# Altium footprint library Led.PcbLib: 80 footprints (part 2 of 5)
Each footprint in its own frame and in the unit in brackets; x right, y up, seen from the top. Pads: shape width x height; smd on the part's side, far side on the other; paste and mask are expansions set on the pad; w line width, h text height; cw(c..) or ccw(c..) is an arc to the next point about the centre after c.
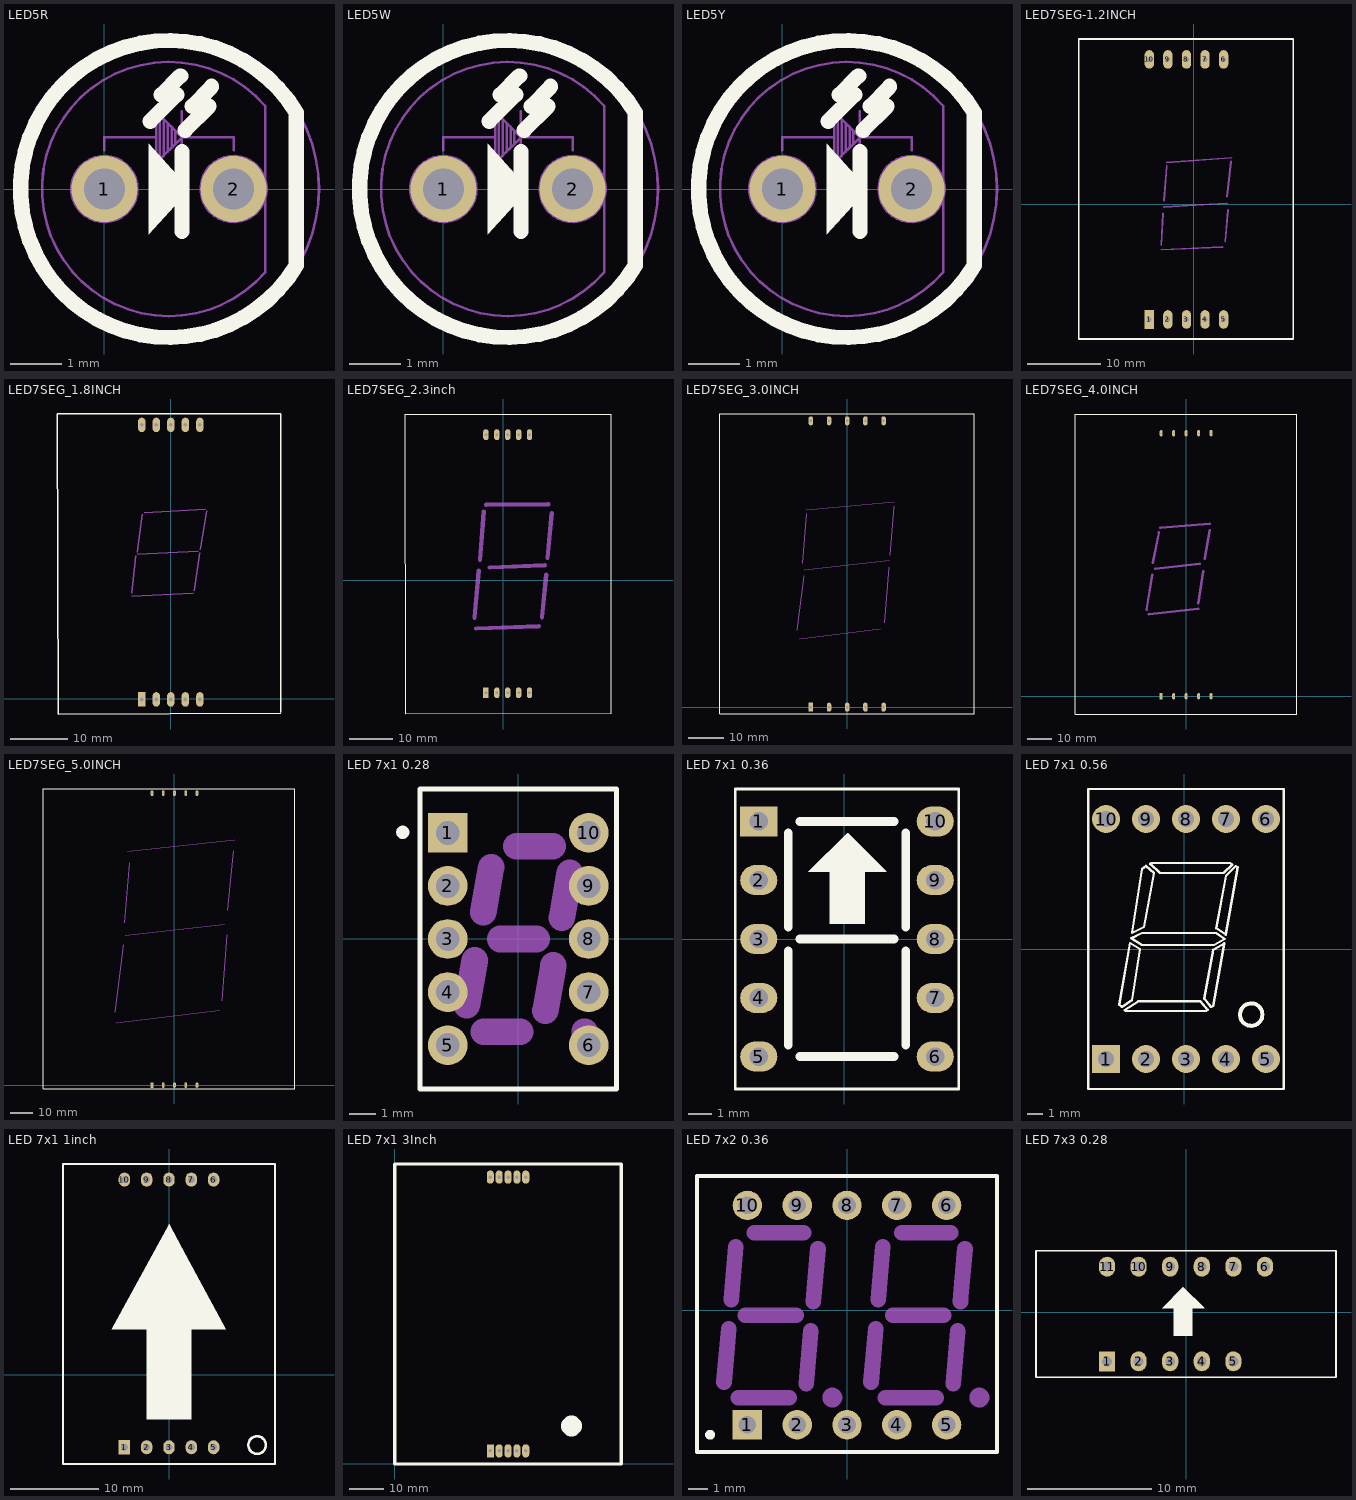
[diagram p1: the footprints below, top view; thin cyan lines are the x and y axes]

## LED5R [mm] "LED, RED, 2 LEAD, 5mm"
height 8.6
pads (2):
  round 1.3 hole 0.8: 1(0,0) 2(2.54,0)
Top Overlay:
  region: 1.676,0 0.876,0.889 0.876,-0.889
  lines w0.3: 0.902,1.333 1.422,1.854 1.118,1.854 1.486,2.222 1.499,2.222 ; 1.524,-0.838 1.524,0.737 ; 1.587,1.156 2.057,1.626 1.727,1.626 2.108,2.007 2.108,2.019 ; 3.775,-1.503 cw(c1.27,0) 3.775,1.503 3.775,-1.503
Mechanical 1:
  circle w0.05: c1.27,0 r2.95
  circle w0.05: c0,0 r0.65
  circle w0.05: c2.54,0 r0.65
  lines w0.05: 0,0.762 0,1.016 1.016,1.016 ; 1.092,1.448 1.092,0.584 ; 1.168,1.372 1.168,0.66 1.092,0.584 ; 1.245,1.295 1.245,0.737 1.321,0.813 ; 1.321,1.219 1.321,0.813 ; 1.397,1.143 1.397,0.889 1.321,0.813 ; 1.524,0.508 1.524,1.524 ; 2.54,0.762 2.54,1.016 2.286,1.016 1.524,1.016 ; 3.159,1.637 ccw(c1.27,0) 3.167,-1.629 ; 3.162,-1.629 3.162,1.637 ; 1.016,0.508 1.092,0.584 ; 1.016,0.508 1.524,1.016 ; 1.016,0.508 1.016,1.524 1.524,1.016
3D body "SW3dPS-LEDd5R.STEP": height 12.31, standoff -2.49, extent -1.71,-3.01 3.71,3.01

## LED5W [mm] "LED, WHITE, 2 LEAD, 5mm"
height 8.6
pads (2):
  round 1.3 hole 0.8: 1(0,0) 2(2.54,0)
Top Overlay:
  region: 1.676,0 0.876,0.889 0.876,-0.889
  lines w0.3: 0.902,1.333 1.422,1.854 1.118,1.854 1.486,2.222 1.499,2.222 ; 1.524,-0.838 1.524,0.737 ; 1.587,1.156 2.057,1.626 1.727,1.626 2.108,2.007 2.108,2.019 ; 3.775,-1.503 cw(c1.27,0) 3.775,1.503 3.775,-1.503
Mechanical 1:
  circle w0.05: c1.27,0 r2.95
  circle w0.05: c0,0 r0.65
  circle w0.05: c2.54,0 r0.65
  lines w0.05: 0,0.762 0,1.016 1.016,1.016 ; 1.092,1.448 1.092,0.584 ; 1.168,1.372 1.168,0.66 1.092,0.584 ; 1.245,1.295 1.245,0.737 1.321,0.813 ; 1.321,1.219 1.321,0.813 ; 1.397,1.143 1.397,0.889 1.321,0.813 ; 1.524,0.508 1.524,1.524 ; 2.54,0.762 2.54,1.016 2.286,1.016 1.524,1.016 ; 3.159,1.637 ccw(c1.27,0) 3.167,-1.629 ; 3.162,-1.629 3.162,1.637 ; 1.016,0.508 1.092,0.584 ; 1.016,0.508 1.524,1.016 ; 1.016,0.508 1.016,1.524 1.524,1.016
3D body "SW3dPS-LEDd5C.STEP": height 12.31, standoff -2.49, extent -1.71,-3.01 3.71,3.01

## LED5Y [mm] "LED, YELLOW, 2 LEAD, 5mm"
height 8.6
pads (2):
  round 1.3 hole 0.8: 1(0,0) 2(2.54,0)
Top Overlay:
  region: 1.676,0 0.876,0.889 0.876,-0.889
  lines w0.3: 0.902,1.333 1.422,1.854 1.118,1.854 1.486,2.222 1.499,2.222 ; 1.524,-0.838 1.524,0.737 ; 1.587,1.156 2.057,1.626 1.727,1.626 2.108,2.007 2.108,2.019 ; 3.775,-1.503 cw(c1.27,0) 3.775,1.503 3.775,-1.503
Mechanical 1:
  circle w0.05: c2.54,0 r0.65
  circle w0.05: c0,0 r0.65
  circle w0.05: c1.27,0 r2.95
  lines w0.05: 0,0.762 0,1.016 1.016,1.016 ; 1.092,1.448 1.092,0.584 ; 1.168,1.372 1.168,0.66 1.092,0.584 ; 1.245,1.295 1.245,0.737 1.321,0.813 ; 1.321,1.219 1.321,0.813 ; 1.397,1.143 1.397,0.889 1.321,0.813 ; 1.524,0.508 1.524,1.524 ; 2.54,0.762 2.54,1.016 2.286,1.016 1.524,1.016 ; 3.159,1.637 ccw(c1.27,0) 3.167,-1.629 ; 3.162,-1.629 3.162,1.637 ; 1.016,0.508 1.016,1.524 1.524,1.016 ; 1.016,0.508 1.524,1.016 ; 1.016,0.508 1.092,0.584
3D body "SW3dPS-LEDd5Y.STEP": height 12.31, standoff -2.49, extent -1.71,-3.01 3.71,3.01

## LED7SEG-1.2INCH [mil]
pads (10):
  rect 50x100 hole 25: 1(-240,-620)
  oval 50x100 hole 25: 2(-140,-620) 3(-40,-620) 4(60,-620) 5(160,-620) 6(160,780) 7(60,780) 8(-40,780) 9(-140,780) 10(-240,780)
Top Overlay:
  lines w10: -620,-725 535,-725 535,890 -620,890 -620,-725
Mechanical 1:
  lines w10: -175.98,-244.41 154.02,-229.41 ; -175.98,-219.41 -165.98,-49.41 ; -160.98,-14.41 179.02,5.59 ; -160.98,20.59 -145.98,205.59 ; -145.98,225.59 204.02,250.59 ; 169.02,-199.41 184.02,-29.41 ; 179.02,40.59 199.02,230.59

## LED7SEG_1.8INCH [mil]
pads (10):
  rect 50x100 hole 25: 1(-200,-5)
  oval 50x100 hole 25: 2(-100,-5) 3(0,-5) 4(100,-5) 5(200,-5) 6(200,1884.76) 7(100,1884.76) 8(0,1884.76) 9(-100,1884.76) 10(-200,1884.76)
Top Overlay:
  lines w10: 755,-100 -775,-105 -780,1960 -250,1960 755,1960 755,-93.58
Mechanical 1:
  lines w10: -267.21,705 152.79,725 ; -267.21,725 -242.21,985 ; -232.21,995 187.79,1015 ; -232.21,1010 -197.21,1270 ; -182.21,1280 237.79,1305 ; 162.79,745 197.79,1005 ; 202.79,1025 247.79,1295

## LED7SEG_2.3inch [mil] "Dán"
pads (10):
  rect 50x100 hole 25: 1(-160,-1035)
  oval 50x100 hole 25: 2(-60,-1035) 3(40,-1035) 4(140,-1035) 5(240,-1035) 6(240,1335.08) 7(140,1335.08) 8(40,1335.08) 9(-60,1335.08) 10(-160,1335.08)
Top Overlay:
  lines w10: -905,1525 990,1525 990,-1225 -900,-1230 -905,1525
Mechanical 1:
  lines w40: -265,-345 -225,85 ; -250,-445 325,-425 ; -215,185 -180,630 ; -160,690 415,695 ; -125,115 380,135 ; 355,-340 395,50 ; 405,205 445,615
3D body "User Library-SA23-11.STEP": height 480.44, standoff -110.11, extent -904.88,-1227.95 984.89,1527.96

## LED7SEG_3.0INCH [mil]
pads (10):
  rect 50x100 hole 25: 1(-400,0)
  oval 50x100 hole 25: 2(-200,0) 3(0,0) 4(200,0) 5(400,0) 6(400,3149.61) 7(200,3149.61) 8(0,3149.61) 9(-200,3149.61) 10(-400,3149.61)
Top Overlay:
  lines w10: -1400,-75 1395,-75 1395,3225 -1400,3225 -1400,-75
Mechanical 1:
  lines w10: -550,845 -475,1445 ; -525,750 365,860 ; -490,1585 -445,2130 ; -475,1510 460,1615 ; -450,2170 515,2260 ; 415,930 460,1540 ; 475,1670 515,2210

## LED7SEG_4.0INCH [mil]
pads (10):
  rect 50x100 hole 25: 1(-400,0)
  oval 50x100 hole 25: 2(-200,0) 3(0,0) 4(200,0) 5(400,0) 6(400,4212.6) 7(200,4212.6) 8(0,4212.6) 9(-200,4212.6) 10(-400,4212.6)
Top Overlay:
  lines w10: -1780,-285 -1780,-79.35 -1780,4295 -1775,4520 1775,4520 1775,-285 -290,-285 -1780,-285
Mechanical 1:
  lines w40: -635,1385 -540,1945 ; -600,1315 195,1400 ; -535,2135 -435,2625 ; -495,2040 220,2120 ; -415,2695 375,2765 ; 195,1485 270,2005 ; 295,2205 380,2660
3D body "User Library-Disp_SA40-18.STEP": height 599.84, standoff -266.3, extent -1773.31,-281.57 1770,4521.57

## LED7SEG_5.0INCH [mm]
pads (10):
  rect 1.27x2.54 hole 0.635: 1(-10.16,0)
  oval 1.27x2.54 hole 0.635: 2(-5.08,0) 3(0,0) 4(5.08,0) 5(10.16,0) 6(10.16,132) 7(5.08,132) 8(0,132) 9(-5.08,132) 10(-10.16,132)
Top Overlay:
  lines w0.254: -59.309,-1.778 54.356,-1.778 54.356,133.858 -59.309,133.858 -59.309,-1.778
Mechanical 1:
  lines w0.254: -26.67,33.02 -22.987,63.5 ; -26.416,28.067 20.193,33.782 ; -22.479,73.406 -20.193,100.584 ; -22.352,67.818 22.479,72.771 ; -21.209,105.664 27.178,110.871 ; 21.59,38.227 23.876,67.945 ; 24.003,79.121 26.797,105.918

## LED 7x1 0.28 [mm]
height 7.62
pads (10):
  rect 1.5x1.5 hole 0.9: 1(-2.655,4)
  round 1.5 hole 0.9: 2(-2.655,2) 3(-2.655,0) 4(-2.655,-2) 5(-2.655,-4) 6(2.655,-4) 7(2.655,-2) 8(2.655,0) 9(2.655,2) 10(2.655,4)
Top Overlay:
  circle w0.25: c-4.35,4.02 r0.125
  lines w0.2: -3.7,-5.65 -3.7,5.65 -0.635,5.65 3.7,5.65 3.7,-5.65 -3.7,-5.65
Mechanical 1:
  circle w0.75: c2.5,-3.5 r0.13
  lines w1: -1.939,-2.497 -1.642,-0.801 ; -1.322,1.002 -1.024,2.699 ; -1.302,-3.5 0.066,-3.5 ; -0.685,0 0.686,0 ; -0.067,3.5 1.303,3.5 ; 1.024,-2.699 1.324,-0.999 ; 1.641,0.802 1.938,2.5
3D body "7 segment display 7mm grn.stp": height 8.04, standoff -0.96, extent -3.9,-5.05 3.9,5.05

## LED 7x1 0.36 [mil]
height 300
pads (10):
  rect 62.99x51.18 hole 31: 1(-145,200)
  oval 62.99x51.18 hole 31: 2(-145,100) 3(-145,0) 4(-145,-100) 5(-145,-200) 6(155,-200) 7(155,-100) 8(155,0) 9(155,100) 10(155,200)
Top Overlay:
  circle w12: c144,-200 r6
  region: -61,114 5,180 7,180 72,115 72,114 35,114 35,26 -24,26 -24,114
  lines w5: -185,-255 195,-255 195,255 -185,255 -185,-255
  lines w15: -95,-180 -95,-20 ; -95,-180 -95,-20 ; -95,-180 -95,-20 ; -95,-180 -95,-20 ; -95,-180 -95,-20 ; -95,-180 -95,-20 ; -95,-180 -95,-20 ; -95,-180 -95,-20 ; -95,20 -95,180 ; -95,20 -95,180 ; -95,20 -95,180 ; -95,20 -95,180 ; -95,20 -95,180 ; -95,20 -95,180 ; -95,20 -95,180 ; -95,20 -95,180 ; -75,-200 85,-200 ; -75,-200 85,-200 ; -75,-200 85,-200 ; -75,-200 85,-200 ; -75,0 85,0 ; -75,0 85,0 ; -75,0 85,0 ; -75,0 85,0 ; -75,0 85,0 ; -75,0 85,0 ; -75,0 85,0 ; -75,0 85,0 ; -75,200 85,200 ; -75,200 85,200 ; -75,200 85,200 ; -75,200 85,200 ; 105,-180 105,-20 ; 105,-180 105,-20 ; 105,-180 105,-20 ; 105,-180 105,-20 ; 105,-180 105,-20 ; 105,-180 105,-20 ; 105,-180 105,-20 ; 105,-180 105,-20 ; 105,20 105,180 ; 105,20 105,180 ; 105,20 105,180 ; 105,20 105,180 ; 105,20 105,180 ; 105,20 105,180 ; 105,20 105,180 ; 105,20 105,180
3D body "27755.stp": height 275.59, standoff -118.11, extent -183.97,-255.9 193.98,255.91

## LED 7x1 0.56 [mil]
pads (10):
  rect 70x70 hole 40: 1(-195,-275)
  round 70 hole 40: 2(-95,-275) 3(5,-275) 4(105,-275) 5(205,-275) 6(205,325) 7(105,325) 8(5,325) 9(-95,325) 10(-195,325)
Top Overlay:
  circle w10: c168,-164 r28.02
  lines w6: -140,-155 -119,-155 ; -116,-155 -143,-155 -145,-155 ; -74,215 102,215 115,215 121,211 99,190 78,190 ; -72,215 -82,215 -85,213 -84,212 -60,190 80,190 ; -155,-145 -130,-128 ; -155,-145 -162,-139 -135,15 -110,0 -130,-128 ; -155,-145 -130,-128 ; -145,-155 -148,-153 -114,-131 41,-131 59,-152 55,-155 -95,-155 -145,-155 ; -239,-350 -239,400 249,400 249,-350 -239,-350 ; -132,27 -105,10 75,10 102,25 80,40 -105,40 -132,27 ; -130,40 -105,200 -95,208 -75,190 -100,55 -130,40 ; 51,-124 68,-145 73,-142 101,14 77,0 73,-2 51,-124 ; 81,52 104,36 134,205 129,207 105,183 81,52
3D body "27763.stp": height 314.96, standoff -137.8, extent -241.06,-349.01 251.07,399.02

## LED 7x1 1inch [mm]
height 7.62
pads (10):
  rect 1.3x1.6 hole 0.787: 1(-5.08,-8.255)
  oval 1.3x1.6 hole 0.787: 2(-2.54,-8.255) 3(0,-8.255) 4(2.54,-8.255) 5(5.08,-8.255) 6(5.08,22.225) 7(2.54,22.225) 8(0,22.225) 9(-2.54,22.225) 10(-5.08,22.225)
Top Overlay:
  circle w0.305: c10.033,-8.001 r1
  region: -6.502,5.182 0,17.145 1.905,13.589 6.477,5.182 2.54,5.182 2.54,-5.08 -2.54,-5.08 -2.54,5.182
  lines w0.2: -12.065,-10.16 12.065,-10.16 12.065,24.003 -12.065,24.003 -12.065,-10.16
3D body "7seg1inch.SLDPRT": height 10.5, standoff -3, extent -12,-10.033 12,23.967

## LED 7x1 3Inch [mm]
pads (10):
  rect 2.032x3.81 hole 1: 1(27.425,3.75)
  oval 2.032x3.81 hole 1: 2(29.965,3.75) 3(32.505,3.75) 4(35.045,3.75) 5(37.585,3.75) 6(37.585,82.25) 7(35.045,82.25) 8(32.505,82.25) 9(29.965,82.25) 10(27.425,82.25)
Top Overlay:
  circle w3: c50.699,10.914 r1.477
  lines w1: 0,0 65,0 65,86 0,86 0,0
3D body "User Library-7segx1-SA30-18-2.step": height 12.01, standoff -2.99, extent 0.012,-0.021 65.012,85.979

## LED 7x2 0.36 [mm] "LED, 7-Segment Display, 9.2 mm, Dual Digit; 10 Leads; Row Space 10.7 mm; Pitch 2.54 mm"
height 7.35
pads (10):
  rect 1.5x1.5 hole 0.9: 1(-5.08,-5.842)
  round 1.5 hole 0.9: 2(-2.54,-5.842) 3(0,-5.842) 4(2.54,-5.842) 5(5.08,-5.842) 6(5.08,5.35) 7(2.54,5.35) 8(0,5.35) 9(-2.54,5.35) 10(-5.08,5.35)
Top Overlay:
  circle w0.25: c-6.985,-6.35 r0.125
  lines w0.2: -7.65,-7.239 -7.65,-0.635 -7.65,6.858 7.65,6.858 7.65,-7.239 -7.65,-7.239
Mechanical 1:
  circle w0.75: c-0.747,-4.454 r0.13
  circle w0.75: c6.753,-4.454 r0.13
  lines w0.8: -6.275,-3.656 -6.038,-0.949 ; -5.909,0.547 -5.671,3.242 ; -5.541,-4.454 -2.949,-4.454 ; -5.172,-0.254 -2.582,-0.254 ; -4.714,3.946 -2.213,3.946 ; -2.084,-3.75 -1.847,-1.056 ; -1.715,0.448 -1.48,3.145 ; 1.225,-3.656 1.462,-0.949 ; 1.591,0.547 1.829,3.242 ; 1.959,-4.454 4.551,-4.454 ; 2.328,-0.254 4.918,-0.254 ; 2.786,3.946 5.287,3.946 ; 5.416,-3.75 5.653,-1.056 ; 5.785,0.448 6.02,3.145
3D body "7 Segment Double Digit LED Display.STEP": height 12.02, standoff 1, extent -7.5,-7.264 7.5,6.746
3D body "61300511821.stp": height 8.51, standoff -3.09, extent -6.6,4.1 6.6,6.6
3D body "61300511821.stp": height 8.51, standoff -3.09, extent -6.6,-7.072 6.6,-4.572

## LED 7x3 0.28 [mil]
height 300
pads (11):
  rect 51.18x62.99 hole 31: 1(-250,-155)
  oval 51.18x62.99 hole 31: 2(-150,-155) 3(-50,-155) 4(50,-155) 5(150,-155) 6(250,145) 7(150,145) 8(50,145) 9(-50,145) 10(-150,145) 11(-250,145)
Top Overlay:
  region: -76,14 -10,80 -8,80 57,15 57,14 20,14 20,-74 -39,-74 -39,14
  lines w5: -475,-205 -475,195 475,195 475,-205 -475,-205
3D body "User Library-IND GNT-2831BD.step": height -157.48, standoff -524.02, extent -472.44,-202.24 472.44,191.85
3D body "61300511821.stp": height 335.04, standoff -121.65, extent -309.84,-205 209.84,-106.57
3D body "61300611821.stp": height 335.04, standoff -121.65, extent -309.84,95.79 309.85,194.22